# Altium footprint library stm_copter.PcbLib: 26 footprints (part 1 of 2)
Each footprint in its own frame and in the unit in brackets; x right, y up, seen from the top. Pads: shape width x height; smd on the part's side, far side on the other; paste and mask are expansions set on the pad; w line width, h text height; cw(c..) or ccw(c..) is an arc to the next point about the centre after c.
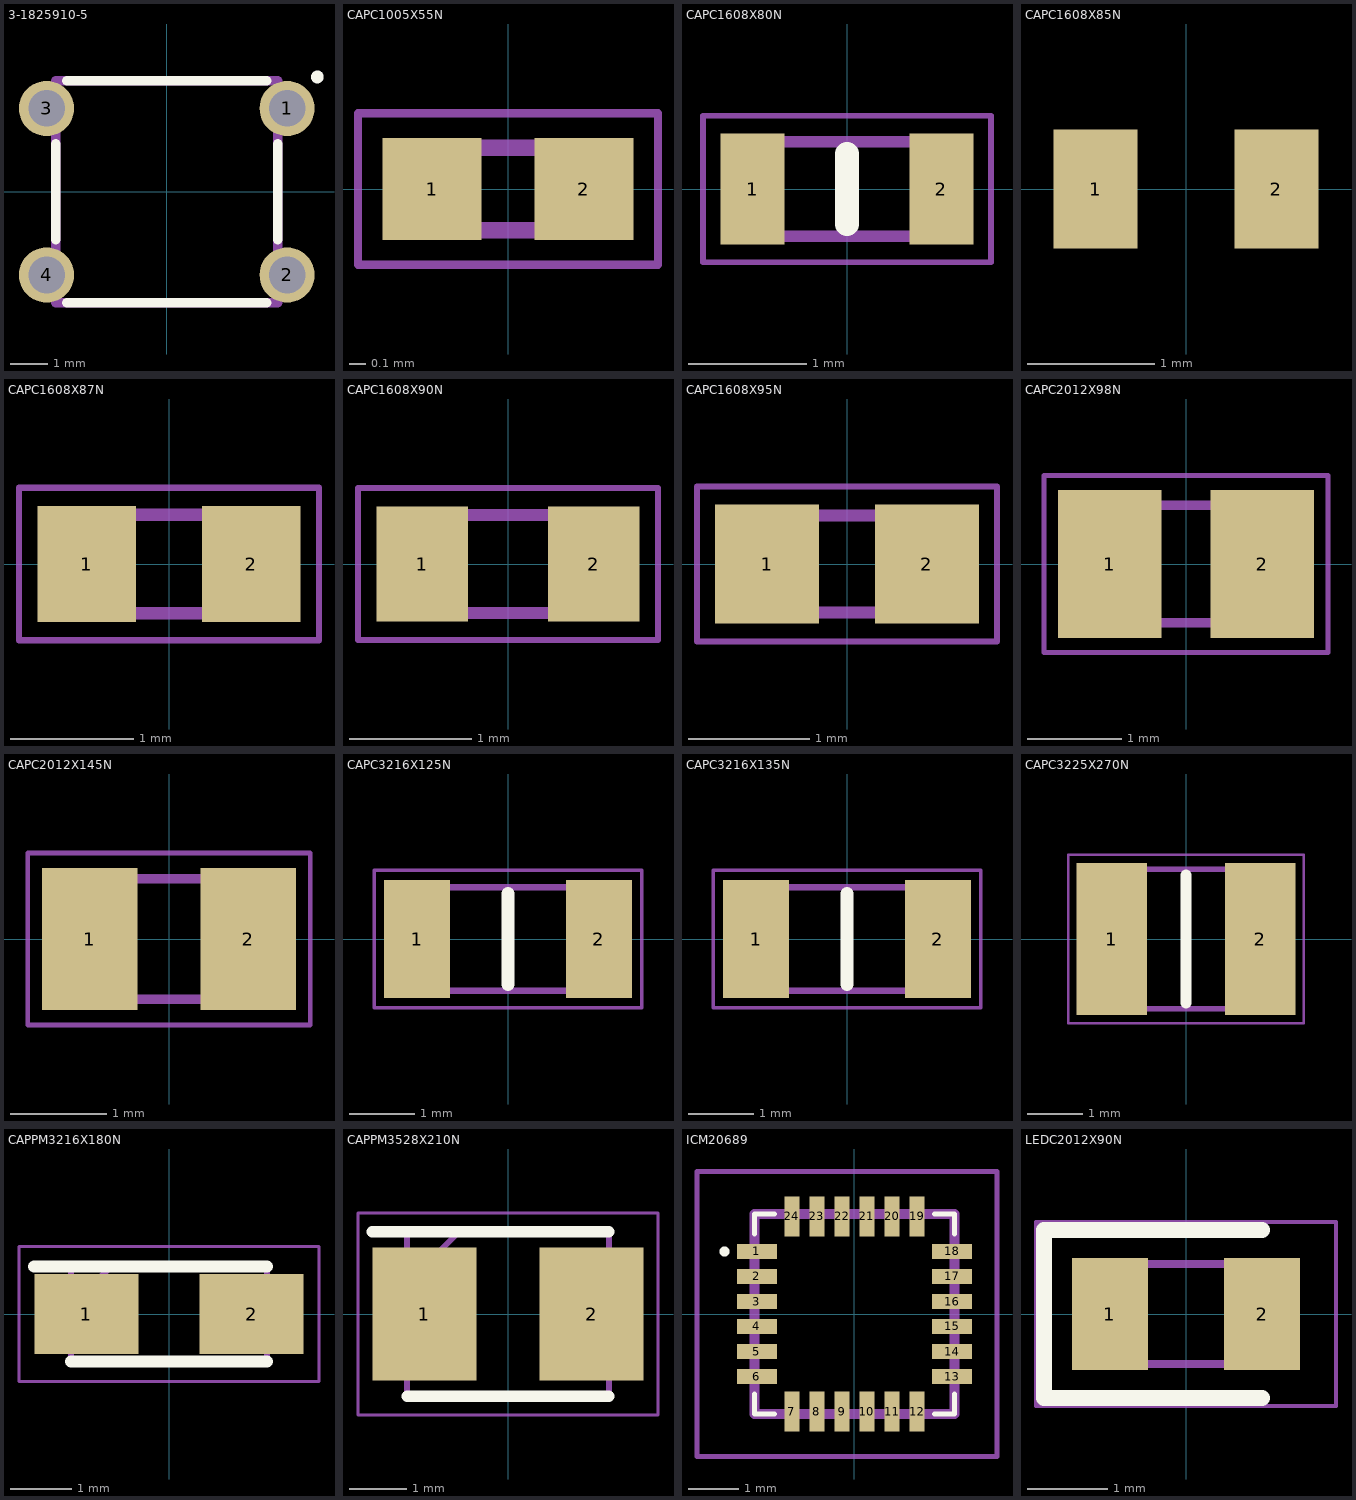
[diagram p0: the footprints below, top view; thin cyan lines are the x and y axes]

## 3-1825910-5 [mm]
pads (4):
  round 1.49 hole 0.99: 1(3.25,2.25) 2(3.25,-2.25) 3(-3.25,2.25) 4(-3.25,-2.25)
Top Overlay:
  circle w0.254: c4.067,3.1 r0.045
  lines w0.254: -3,-1.3 -3,1.3 ; -2.7,-3 2.7,-3 ; -2.7,3 2.7,3 ; 3,-1.3 3,1.3
Mechanical 13:
  lines w0.254: -3,-3 -3,3 3,3 3,-3 -3,-3
3D body "3-1825910-5.stp": height 0, standoff -10.51, extent -2.995,-3.9 2.995,3.9

## CAPC1005X55N [mm]
pads (2):
  rect 0.6x0.62 smd: 1(-0.46,0) 2(0.46,0)
Mechanical 13:
  lines w0.1: -0.5,-0.25 -0.5,0.25 0.5,0.25 0.5,-0.25 -0.5,-0.25
Mechanical 15:
  lines w0.05: -0.91,-0.46 -0.91,0.46 0.91,0.46 0.91,-0.46 -0.91,-0.46
3D body "CC0402KRX7R7BB104.stp": height 0.55, standoff 0, extent -0.5,-0.25 0.5,0.25

## CAPC1608X80N [mm]
pads (2):
  rect 0.54x0.94 smd: 1(-0.8,0) 2(0.8,0)
Top Overlay:
  lines w0.2: 0,-0.3 0,0.3
Mechanical 13:
  lines w0.1: -0.8,-0.4 0.8,-0.4 0.8,0.4 -0.8,0.4 -0.8,-0.4
Mechanical 15:
  lines w0.05: -1.22,-0.62 1.22,-0.62 1.22,0.62 -1.22,0.62 -1.22,-0.62
3D body "C1608X7S2A473K080AB.stp": height 0.8, standoff 0, extent -0.8,-0.4 0.8,0.4

## CAPC1608X85N [mil]
pads (2):
  rect 26x37 smd: 1(-28,0) 2(28,0)
3D body "C0603C103K1RACTU.stp": height 1743.34, standoff 1705.94, extent -3836.95,419.06 -3768.05,453.31

## CAPC1608X87N [mm]
pads (2):
  rect 0.8x0.94 smd: 1(-0.67,0) 2(0.67,0)
Mechanical 13:
  lines w0.1: -0.8,-0.4 -0.8,0.4 0.8,0.4 0.8,-0.4 -0.8,-0.4
Mechanical 15:
  lines w0.05: -1.22,-0.62 -1.22,0.62 1.22,0.62 1.22,-0.62 -1.22,-0.62
3D body "885012206052.stp": height 0.87, standoff 0, extent -0.8,-0.4 0.8,0.4

## CAPC1608X90N [mm]
pads (2):
  rect 0.75x0.94 smd: 1(-0.7,0) 2(0.7,0)
Mechanical 13:
  lines w0.1: -0.8,-0.4 -0.8,0.4 0.8,0.4 0.8,-0.4 -0.8,-0.4
Mechanical 15:
  lines w0.05: -1.225,-0.62 -1.225,0.62 1.225,0.62 1.225,-0.62 -1.225,-0.62
3D body "GRM188R72A104KA35D.stp": height 0.9, standoff 0, extent -0.8,-0.4 0.8,0.4

## CAPC1608X95N [mm]
pads (2):
  rect 0.86x0.98 smd: 1(-0.66,0) 2(0.66,0)
Mechanical 13:
  lines w0.1: -0.8,-0.4 -0.8,0.4 0.8,0.4 0.8,-0.4 -0.8,-0.4
Mechanical 15:
  lines w0.05: -1.24,-0.64 -1.24,0.64 1.24,0.64 1.24,-0.64 -1.24,-0.64
3D body "CC0603KRX5R5BB106.stp": height 0.95, standoff 0, extent -0.8,-0.4 0.8,0.4

## CAPC2012X98N [mm]
pads (2):
  rect 1.1x1.57 smd: 1(-0.81,0) 2(0.81,0)
Mechanical 13:
  lines w0.1: -1,-0.625 1,-0.625 1,0.625 -1,0.625 -1,-0.625
Mechanical 15:
  lines w0.05: -1.51,-0.94 1.51,-0.94 1.51,0.94 -1.51,0.94 -1.51,-0.94
3D body "C0805X104K5RAC3316.stp": height 0.98, standoff 0, extent -1,-0.625 1,0.625

## CAPC2012X145N [mm]
pads (2):
  rect 0.99x1.47 smd: 1(-0.82,0) 2(0.82,0)
Mechanical 13:
  lines w0.1: -1,-0.625 -1,0.625 1,0.625 1,-0.625 -1,-0.625
Mechanical 15:
  lines w0.05: -1.465,-0.89 -1.465,0.89 1.465,0.89 1.465,-0.89 -1.465,-0.89
3D body "VJ0805Y104KNAAT.stp": height 1.45, standoff 0, extent -1,-0.625 1,0.625

## CAPC3216X125N [mm]
pads (2):
  rect 1.02x1.82 smd: 1(-1.4,0) 2(1.4,0)
Top Overlay:
  lines w0.2: 0,-0.7 0,0.7
Mechanical 13:
  lines w0.1: -1.6,-0.8 1.6,-0.8 1.6,0.8 -1.6,0.8 -1.6,-0.8
Mechanical 15:
  lines w0.05: -2.06,-1.06 2.06,-1.06 2.06,1.06 -2.06,1.06 -2.06,-1.06
3D body "CC1206KKX7R7BB225.stp": height 1.25, standoff 0, extent -1.6,-0.8 1.6,0.8

## CAPC3216X135N [mm]
pads (2):
  rect 1.02x1.82 smd: 1(-1.4,0) 2(1.4,0)
Top Overlay:
  lines w0.2: 0,-0.7 0,0.7
Mechanical 13:
  lines w0.1: -1.6,-0.8 1.6,-0.8 1.6,0.8 -1.6,0.8 -1.6,-0.8
Mechanical 15:
  lines w0.05: -2.06,-1.06 2.06,-1.06 2.06,1.06 -2.06,1.06 -2.06,-1.06
3D body "C1206C104J5JACTU.stp": height 1.35, standoff 0, extent -1.6,-0.8 1.6,0.8

## CAPC3225X270N [mm]
pads (2):
  rect 1.26x2.72 smd: 1(-1.33,0) 2(1.33,0)
Top Overlay:
  lines w0.2: 0,-1.15 0,1.15
Mechanical 13:
  lines w0.1: -1.6,-1.25 -1.6,1.25 1.6,1.25 1.6,-1.25 -1.6,-1.25
Mechanical 15:
  lines w0.05: -2.11,-1.51 -2.11,1.51 2.11,1.51 2.11,-1.51 -2.11,-1.51
3D body "GRM32ER71K475KE14L.stp": height 2.7, standoff 0, extent -1.6,-1.25 1.6,1.25

## CAPPM3216X180N [mm]
pads (2):
  rect 1.7x1.3 smd: 1(-1.35,0) 2(1.35,0)
Top Overlay:
  lines w0.2: -2.2,0.775 1.6,0.775 ; -1.6,-0.775 1.6,-0.775
Mechanical 13:
  lines w0.1: -1.6,0.125 -0.95,0.775 ; -1.6,-0.775 -1.6,0.775 1.6,0.775 1.6,-0.775 -1.6,-0.775
Mechanical 15:
  lines w0.05: -2.45,-1.1 -2.45,1.1 2.45,1.1 2.45,-1.1 -2.45,-1.1
3D body "TAJA105K016R.stp": height 1.8, standoff 0, extent -1.6,-0.775 1.6,0.775

## CAPPM3528X210N [mm]
pads (2):
  rect 1.8x2.3 smd: 1(-1.45,0) 2(1.45,0)
Top Overlay:
  lines w0.2: -2.35,1.425 1.75,1.425 ; -1.75,-1.425 1.75,-1.425
Mechanical 13:
  lines w0.1: -1.75,0.525 -0.85,1.425 ; -1.75,-1.425 1.75,-1.425 1.75,1.425 -1.75,1.425 -1.75,-1.425
Mechanical 15:
  lines w0.05: -2.6,-1.75 2.6,-1.75 2.6,1.75 -2.6,1.75 -2.6,-1.75
3D body "TAJB106K016RSJ.stp": height 2.1, standoff 0, extent -1.75,-1.425 1.75,1.425

## ICM20689 [mm]
pads (24):
  rect 0.8x0.3 smd: 1(-1.95,1.25) 2(-1.95,0.75) 3(-1.95,0.25) 4(-1.95,-0.25) 5(-1.95,-0.75) 6(-1.95,-1.25) 13(1.95,-1.25) 14(1.95,-0.75) 15(1.95,-0.25) 16(1.95,0.25) 17(1.95,0.75) 18(1.95,1.25)
  rect 0.3x0.8 smd: 7(-1.25,-1.95) 8(-0.75,-1.95) 9(-0.25,-1.95) 10(0.25,-1.95) 11(0.75,-1.95) 12(1.25,-1.95) 19(1.25,1.95) 20(0.75,1.95) 21(0.25,1.95) 22(-0.25,1.95) 23(-0.75,1.95) 24(-1.25,1.95)
Top Overlay:
  lines w0.1: -2,-1.6 -2,-2 -1.6,-2 ; -2,1.6 -2,2 -1.6,2 ; 1.6,-2 2,-2 2,-1.6 ; 1.6,2 2,2 2,1.6 ; -2.6,1.2 cw(c-2.6,1.25) -2.6,1.3 cw(c-2.6,1.25) -2.6,1.2
Mechanical 13:
  lines w0.2: -2,-2 -2,2 2,2 2,-2 -2,-2
Mechanical 15:
  lines w0.1: -3.15,-2.85 -3.15,2.85 2.85,2.85 2.85,-2.85 -3.15,-2.85
3D body "ICM-20689.stp": height 1.1, standoff 0, extent -2,-2 2,2

## LEDC2012X90N [mm]
pads (2):
  rect 0.95x1.4 smd: 1(-0.95,0) 2(0.95,0)
Top Overlay:
  lines w0.2: 0.95,-1.05 -1.775,-1.05 -1.775,1.05 0.95,1.05
Mechanical 13:
  lines w0.1: -1,0.208 -0.583,0.625 ; -1,-0.625 -1,0.625 1,0.625 1,-0.625 -1,-0.625
Mechanical 15:
  lines w0.05: -1.875,-1.15 -1.875,1.15 1.875,1.15 1.875,-1.15 -1.875,-1.15